# EAGLE library part IS25LQ025B (library ISSI)
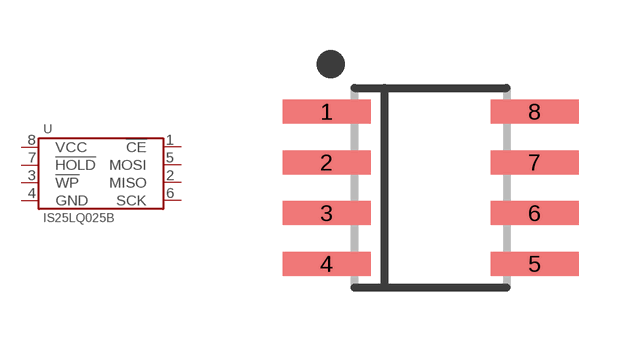
[diagram p0: symbol with the pads of SOIC-8; footprint SOIC-8]

Designator prefix U

## IS25LQ025B-JNLE  [SOIC-8]
1  !CE
2  MISO
3  !WP
4  GND
5  MOSI
6  SCK
7  !HOLD
8  VCC

## Footprint SOIC-8 (pad centres in mm)
smd 2.2 x 0.6: 1 -2.6,1.905; 2 -2.6,0.635; 3 -2.6,-0.635; 4 -2.6,-1.905; 5 2.6,-1.905; 6 2.6,-0.635; 7 2.6,0.635; 8 2.6,1.905